# Altium schematic symbol library Schlib1.SchLib: 1 symbol
Pins are listed as number, name and electrical type; pins without a type are passive.

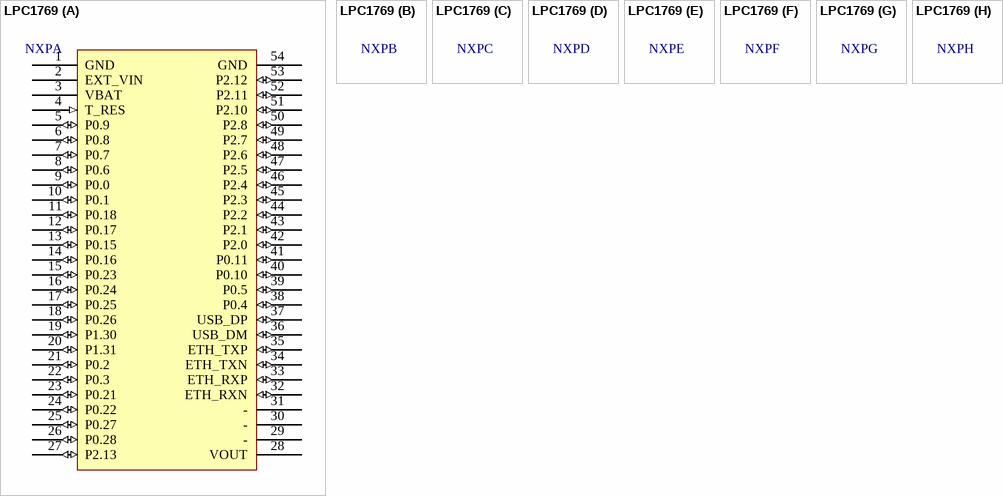
[diagram p0: symbol LPC1769]

## LPC1769
designator NXP  (value not drawn)
part A pins: 1 GND (power), 2 EXT_VIN (power), 3 VBAT (power), 4 T_RES (in), 5 P0.9 (io), 6 P0.8 (io), 7 P0.7 (io), 8 P0.6 (io), 9 P0.0 (io), 10 P0.1 (io), 11 P0.18 (io), 12 P0.17 (io), 13 P0.15 (io), 14 P0.16 (io), 15 P0.23 (io), 16 P0.24 (io), 17 P0.25 (io), 18 P0.26 (io), 19 P1.30 (io), 20 P1.31 (io), 21 P0.2 (io), 22 P0.3 (io), 23 P0.21 (io), 24 P0.22 (io), 25 P0.27 (io), 26 P0.28 (io), 27 P2.13 (io), 28 VOUT (power), 29 -, 30 -, 31 -, 32 ETH_RXN (io), 33 ETH_RXP (io), 34 ETH_TXN (io), 35 ETH_TXP (io), 36 USB_DM (io), 37 USB_DP (io), 38 P0.4 (io), 39 P0.5 (io), 40 P0.10 (io), 41 P0.11 (io), 42 P2.0 (io), 43 P2.1 (io), 44 P2.2 (io), 45 P2.3 (io), 46 P2.4 (io), 47 P2.5 (io), 48 P2.6 (io), 49 P2.7 (io), 50 P2.8 (io), 51 P2.10 (io), 52 P2.11 (io), 53 P2.12 (io), 54 GND (power)